# EAGLE library part 52207-2085 (library molex)
SOCKET FPC, SMT, 1MM,20 WAY
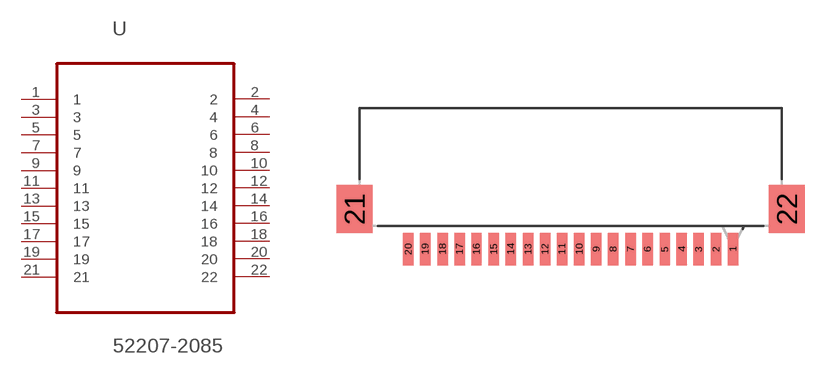
[diagram p7: symbol with the pads of MOLEX_52207-2085; footprint MOLEX_52207-2085]

Designator prefix U

## 52207-2085 (MPN: 52207-2085; OC_FARNELL: 1079944; OC_NEWARK: 50M9208; PACKAGE: SOCKET FPC, SMT, 1MM, 20 WAY; SUPPLIER: Molex)  [MOLEX_52207-2085]
1  1  pas
2  2  pas
3  3  pas
4  4  pas
5  5  pas
6  6  pas
7  7  pas
8  8  pas
9  9  pas
10  10  pas
11  11  pas
12  12  pas
13  13  pas
14  14  pas
15  15  pas
16  16  pas
17  17  pas
18  18  pas
19  19  pas
20  20  pas
21  21  pas
22  22  pas

## Footprint MOLEX_52207-2085 (pad centres in mm)
smd 0.61 x 1.905: 1 9.5,4.801; 2 8.509,4.801; 3 7.493,4.801; 4 6.502,4.801; 5 5.512,4.801; 6 4.496,4.801; 7 3.505,4.801; 8 2.489,4.801; 9 1.499,4.801; 10 0.508,4.801; 11 -0.508,4.801; 12 -1.499,4.801; 13 -2.489,4.801; 14 -3.505,4.801; 15 -4.496,4.801; 16 -5.512,4.801; 17 -6.502,4.801; 18 -7.493,4.801; 19 -8.509,4.801; 20 -9.5,4.801
smd 2.108 x 2.794: 21 -12.649,7.137; 22 12.649,7.137